# EAGLE library part HM-10 (library motion_detect_masterlib)
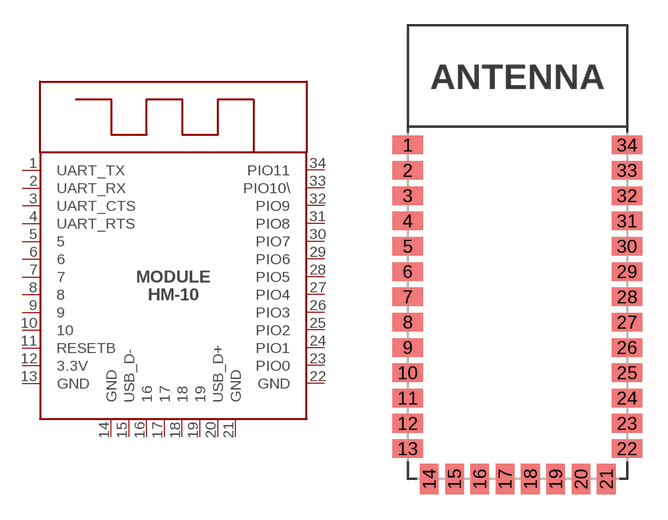
[diagram p1: symbol with the pads of HM-10; footprint HM-10]

Designator prefix MODULE

## HM-10  [HM-10]
1  UART_TX
2  UART_RX
3  UART_CTS
4  UART_RTS
5  5
6  6
7  7
8  8
9  9
10  10
11  RESETB
12  3.3V
13  GND
14  GND
15  USB_D-
16  16
17  17
18  18
19  19
20  USB_D+
21  GND
22  GND
23  PIO0
24  PIO1
25  PIO2
26  PIO3
27  PIO4
28  PIO5
29  PIO6
30  PIO7
31  PIO8
32  PIO9
33  PIO10\
34  PIO11

## Footprint HM-10 (pad centres in mm)
smd 1.8 x 1.1: 1 -6.5,6.35; 2 -6.5,4.85; 3 -6.5,3.35; 4 -6.5,1.85; 5 -6.5,0.35; 6 -6.5,-1.15; 7 -6.5,-2.65; 8 -6.5,-4.15; 9 -6.5,-5.65; 10 -6.5,-7.15; 11 -6.5,-8.65; 12 -6.5,-10.15; 13 -6.5,-11.65; 22 6.5,-11.65; 23 6.5,-10.15; 24 6.5,-8.65; 25 6.5,-7.15; 26 6.5,-5.65; 27 6.5,-4.15; 28 6.5,-2.65; 29 6.5,-1.15; 30 6.5,0.35; 31 6.5,1.85; 32 6.5,3.35; 33 6.5,4.85; 34 6.5,6.35
smd 1.1 x 1.8: 14 -5.23,-13.45; 15 -3.73,-13.45; 16 -2.23,-13.45; 17 -0.73,-13.45; 18 0.77,-13.45; 19 2.27,-13.45; 20 3.77,-13.45; 21 5.27,-13.45